# Altium schematic symbol library SCH - POWER - SWITCHMODE - TI TPS54335ADDA.SchLib: 1 symbol
Pins are listed as number, name and electrical type; pins without a type are passive.

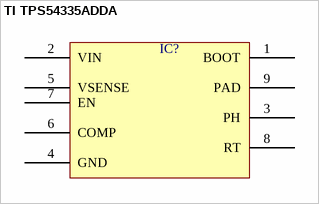
[diagram p0: symbol TI TPS54335ADDA]

## TI TPS54335ADDA
designator IC?  (value not drawn)
pins: 1 BOOT, 2 VIN, 3 PH, 4 GND, 5 VSENSE, 6 COMP, 7 EN, 8 RT, 9 PAD